# Altium schematic symbol library Filters.SchLib: 1 symbol
Pins are listed as number, name and electrical type; pins without a type are passive.

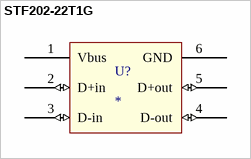
[diagram p0: symbol STF202-22T1G]

## STF202-22T1G
designator U?
USB filtering, protection, and termination
pins: 1 Vbus (power), 2 D+in (io), 3 D-in (io), 4 D-out (io), 5 D+out (io), 6 GND (power)